# EAGLE library part DX_BT_MODULE (library MyParts)
http://www.dealextreme.com/p/wireless-bluetooth-rs232-ttl-transceiver-module-80711
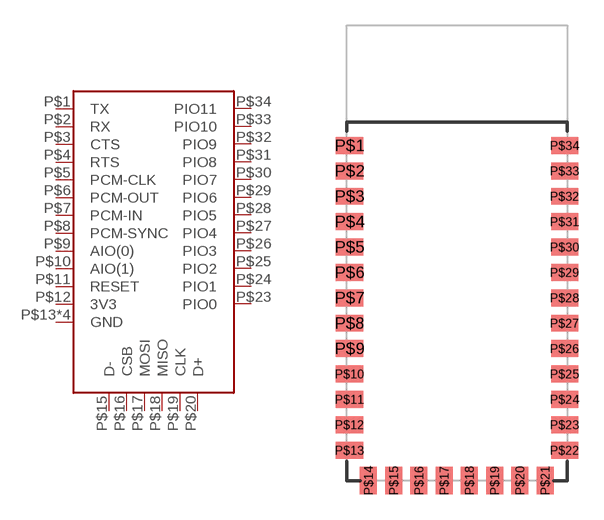
[diagram p18: symbol with the pads of DXBLUETOOTHMODULE; footprint DXBLUETOOTHMODULE]

Designator prefix -

## DX_BT_MODULE  [DXBLUETOOTHMODULE]
P$1  TX  out
P$2  RX  in
P$3  CTS  in
P$4  RTS  out
P$5  PCM-CLK
P$6  PCM-OUT  out
P$7  PCM-IN  in
P$8  PCM-SYNC
P$9  AIO(0)
P$10  AIO(1)
P$11  RESET  in
P$12  3V3  pwr
P$13  GND  pwr
P$14  GND  pwr
P$15  D-
P$16  CSB  in
P$17  MOSI  in
P$18  MISO  out
P$19  CLK  in
P$20  D+
P$21  GND  pwr
P$22  GND  pwr
P$23  PIO0
P$24  PIO1
P$25  PIO2
P$26  PIO3
P$27  PIO4
P$28  PIO5
P$29  PIO6
P$30  PIO7
P$31  PIO8
P$32  PIO9
P$33  PIO10
P$34  PIO11

## Footprint DXBLUETOOTHMODULE (pad centres in mm)
smd 1.6 x 1: P$1 -6.35,6.35; P$2 -6.35,4.85; P$3 -6.35,3.35; P$4 -6.35,1.85; P$5 -6.35,0.35; P$6 -6.35,-1.15; P$7 -6.35,-2.65; P$8 -6.35,-4.15; P$9 -6.35,-5.65; P$10 -6.35,-7.15; P$11 -6.35,-8.65; P$12 -6.35,-10.15; P$13 -6.35,-11.66; P$22 6.35,-11.66; P$23 6.35,-10.15; P$24 6.35,-8.65; P$25 6.35,-7.15; P$26 6.35,-5.65; P$27 6.35,-4.15; P$28 6.35,-2.65; P$29 6.35,-1.15; P$30 6.35,0.35; P$31 6.35,1.85; P$32 6.35,3.35; P$33 6.35,4.85; P$34 6.35,6.35
smd 1 x 1.6: P$14 -5.23,-13.45; P$15 -3.74,-13.45; P$16 -2.25,-13.45; P$17 -0.76,-13.45; P$18 0.73,-13.45; P$19 2.22,-13.45; P$20 3.71,-13.45; P$21 5.2,-13.45